# EAGLE library part IC_ADC_8BIT_I2C_188KSPS_8VSSOP (library OTHERTEST)
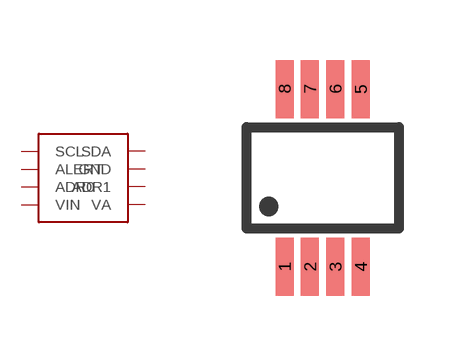
[diagram p6: symbol with the pads of IC_ADC_8BIT_I2C_188KSPS_8VSSOP; footprint IC_ADC_8BIT_I2C_188KSPS_8VSSOP]

Designator prefix -

## IC_ADC_8BIT_I2C_188KSPS_8VSSOP  [IC_ADC_8BIT_I2C_188KSPS_8VSSOP]
1  SCL  nc
2  ALERT  nc
3  ADR0  nc
4  VIN  nc
5  VA  nc
6  ADR1  nc
7  GND  nc
8  SDA  nc

## Footprint IC_ADC_8BIT_I2C_188KSPS_8VSSOP (pad centres in mm)
smd 0.45 x 1.45: 1 -1.27,-4.445; 2 -0.635,-4.445; 3 0,-4.445; 4 0.635,-4.445; 5 0.635,0; 6 0,0; 7 -0.635,0; 8 -1.27,0